# EAGLE library part TCA9584A (library specialparts)
I2C Multiplexer Breakout Board
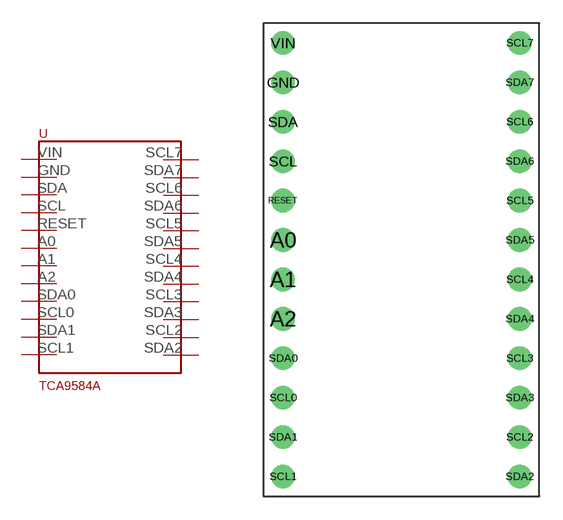
[diagram p1: symbol with the pads of TCA9584A; footprint TCA9584A]

Designator prefix -

## TCA9584A  [TCA9584A]
A0  A0
A1  A1
A2  A2
GND  GND
RESET  RESET
SCL  SCL
SCL0  SCL0
SCL1  SCL1
SCL2  SCL2
SCL3  SCL3
SCL4  SCL4
SCL5  SCL5
SCL6  SCL6
SCL7  SCL7
SDA  SDA
SDA0  SDA0
SDA1  SDA1
SDA2  SDA2
SDA3  SDA3
SDA4  SDA4
SDA5  SDA5
SDA6  SDA6
SDA7  SDA7
VIN  VIN

## Footprint TCA9584A (pad centres in mm)
drill 1.016: A0 -7.62,15.24; A1 -7.62,12.7; A2 -7.62,10.16; GND -7.62,25.4; RESET -7.62,17.78; SCL -7.62,20.32; SCL0 -7.62,5.08; SCL1 -7.62,0; SCL2 7.62,2.54; SCL3 7.62,7.62; SCL4 7.62,12.7; SCL5 7.62,17.78; SCL6 7.62,22.86; SCL7 7.62,27.94; SDA -7.62,22.86; SDA0 -7.62,7.62; SDA1 -7.62,2.54; SDA2 7.62,0; SDA3 7.62,5.08; SDA4 7.62,10.16; SDA5 7.62,15.24; SDA6 7.62,20.32; SDA7 7.62,25.4; VIN -7.62,27.94